# EAGLE library part MAX9927 (library parts)
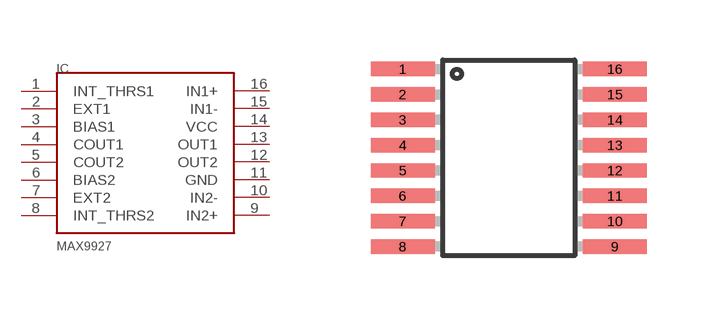
[diagram p2: symbol with the pads of 16-QSOP; footprint 16-QSOP]

Designator prefix IC

## MAX9927  [16-QSOP]
1  INT_THRS1
2  EXT1
3  BIAS1
4  COUT1
5  COUT2
6  BIAS2
7  EXT2
8  INT_THRS2
9  IN2+
10  IN2-
11  GND
12  OUT2
13  OUT1
14  VCC
15  IN1-
16  IN1+

## Footprint 16-QSOP (pad centres in mm)
smd 1.6 x 0.36: 1 -2.655,2.223; 2 -2.655,1.587; 3 -2.655,0.953; 4 -2.655,0.318; 5 -2.655,-0.318; 6 -2.655,-0.953; 7 -2.655,-1.587; 8 -2.655,-2.223; 9 2.655,-2.223; 10 2.655,-1.587; 11 2.655,-0.953; 12 2.655,-0.318; 13 2.655,0.318; 14 2.655,0.953; 15 2.655,1.587; 16 2.655,2.223